# EAGLE library part 6871XX14022_68713214022 (library WR-FPC)
WR-FPC 0.50 mm SMT ZIF Horizontal Top Contact KIND PROPERTIES Pitch 0.5 mm MATERIAL PROPERTIES Insulator Material LCP Contact Material Phosphor Bronze Contact Plating 100 (µ") Tin over 50 (µ") Nickel Contact Type Stamped Solder Tabs Brass <https://www.we-online.com/catalog/media/o32866v209%20Family_WE-FPC_6871xx14022.jpg> Details see: https://www.we-online.com/catalog/en/FPC_0_5_SMT_ZIF_HORIZONTAL_TOP_CONTACT_6871XX14022/ Updated by Ella Wu 2020-08-26 2020(C) Wurth Elektronik
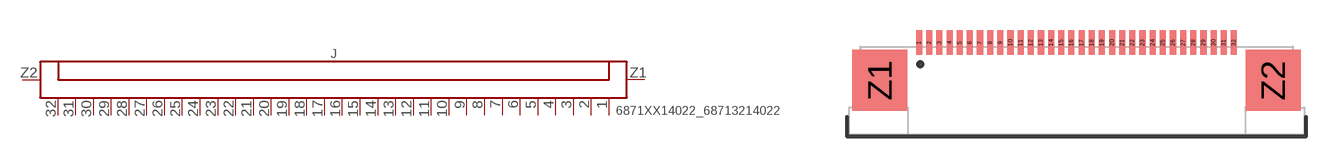
[diagram p227: symbol with the pads of 68713214022; footprint 68713214022]

Designator prefix J

## 6871XX14022_68713214022 (CONTACT-RESISTANCE: 20Ohm; DATASHEET-URL: https://www.we-online.com/catalog/datasheet/68713214022.pdf; IR: 0.5A; L: 22.4mm; PACKAGING: Tape and Reel; PART-NUMBER: 68713214022; PINS: 32; PITCH: 0.5mm; TYPE: Horizontal; VALUE: 68713214022; WORKING-VOLTAGE: 50V(AC))  [68713214022]
1  1  pas
2  2  pas
3  3  pas
4  4  pas
5  5  pas
6  6  pas
7  7  pas
8  8  pas
9  9  pas
10  10  pas
11  11  pas
12  12  pas
13  13  pas
14  14  pas
15  15  pas
16  16  pas
17  17  pas
18  18  pas
19  19  pas
20  20  pas
21  21  pas
22  22  pas
23  23  pas
24  24  pas
25  25  pas
26  26  pas
27  27  pas
28  28  pas
29  29  pas
30  30  pas
31  31  pas
32  32  pas
Z1  Z1  pas
Z2  Z2  pas

## Footprint 68713214022 (pad centres in mm)
WR-FPC 0.50 mm SMT ZIF Horizontal Top Contact ,32 Pins
smd 0.3 x 1.2: 1 -7.75,2.35; 2 -7.25,2.35; 3 -6.75,2.35; 4 -6.25,2.35; 5 -5.75,2.35; 6 -5.25,2.35; 7 -4.75,2.35; 8 -4.25,2.35; 9 -3.75,2.35; 10 -3.25,2.35; 11 -2.75,2.35; 12 -2.25,2.35; 13 -1.75,2.35; 14 -1.25,2.35; 15 -0.75,2.35; 16 -0.25,2.35; 17 0.25,2.35; 18 0.75,2.35; 19 1.25,2.35; 20 1.75,2.35; 21 2.25,2.35; 22 2.75,2.35; 23 3.25,2.35; 24 3.75,2.35; 25 4.25,2.35; 26 4.75,2.35; 27 5.25,2.35; 28 5.75,2.35; 29 6.25,2.35; 30 6.75,2.35; 31 7.25,2.35; 32 7.75,2.35
smd 2.7 x 3: Z1 -9.68,0.49; Z2 9.68,0.49